# Altium integrated library moteus_n1.IntLib: 35 symbols
Pins are listed as number, name and electrical type; pins without a type are passive.

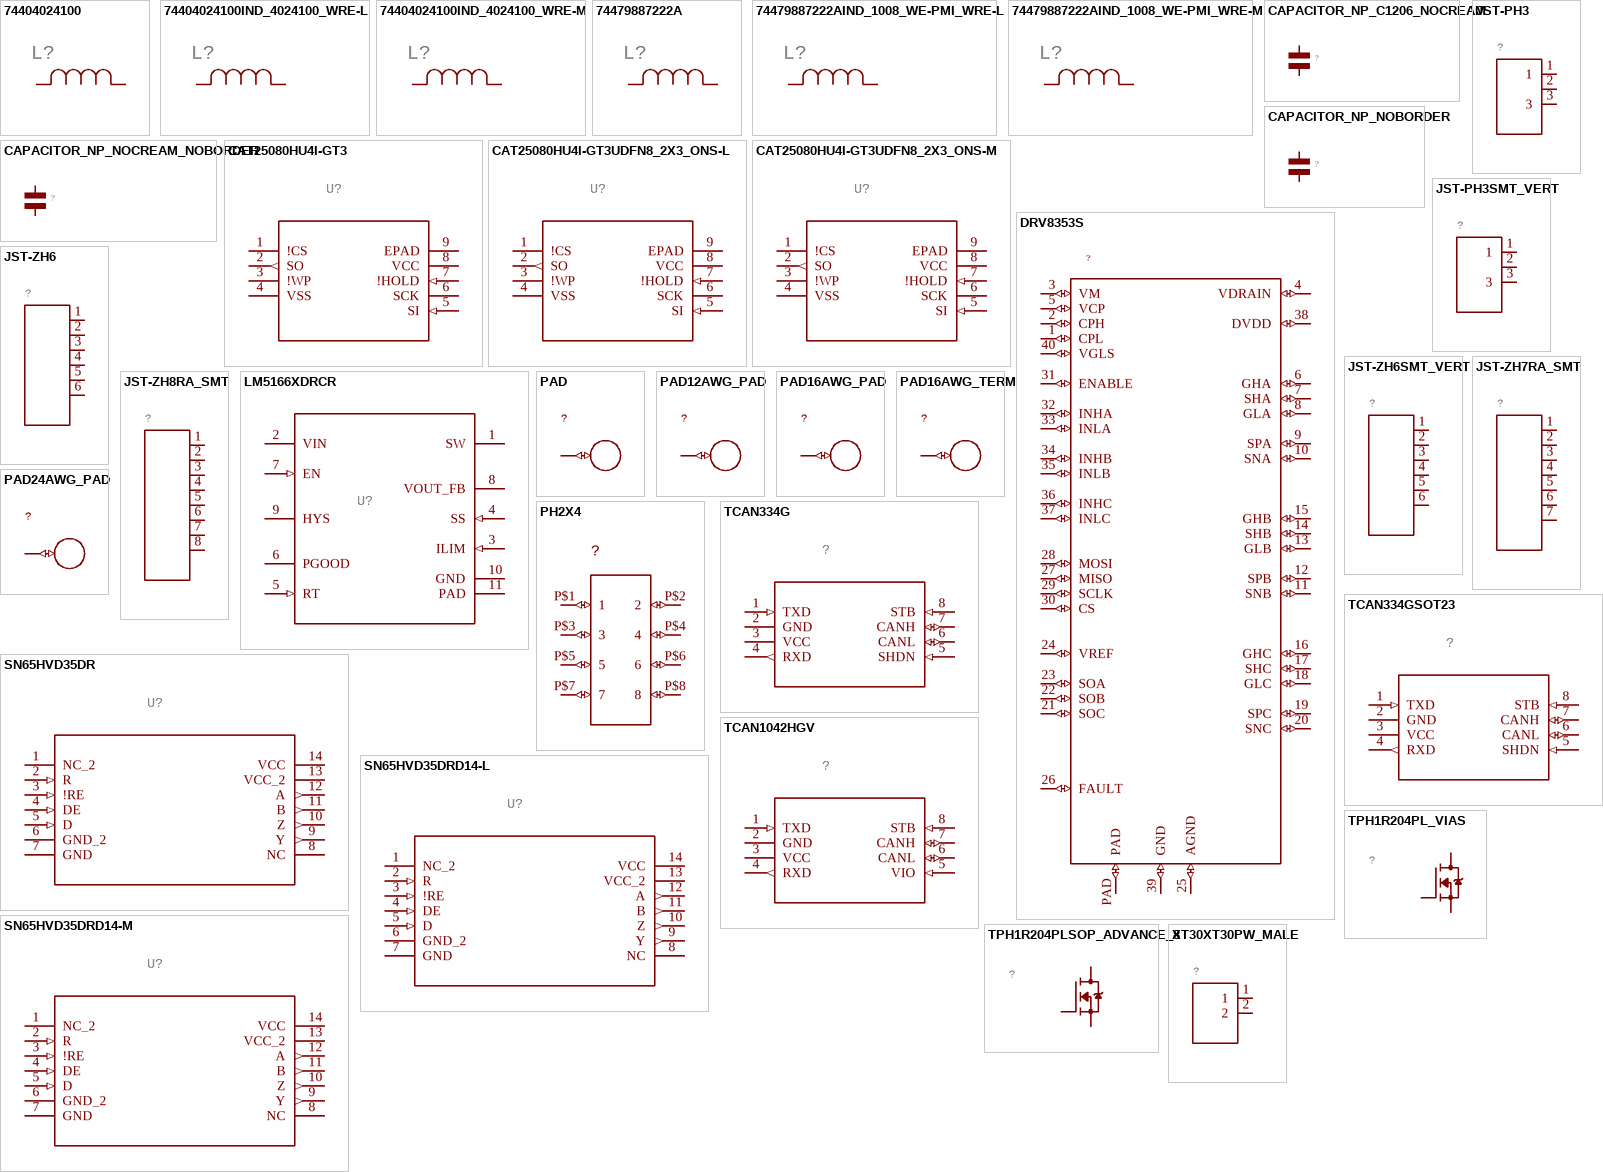
[diagram p0: symbols 74404024100 to XT30XT30PW_MALE]

## 74404024100
designator L?
MFR_NAME: Wurth Electronics; GateName_1: A; SymbolName_1: IND; DeviceSetName: 74404024100; LibraryName: moteus_n1; Package: IND_4024100_WRE; COPYRIGHT: Copyright (C) 2022 Ultra Librarian. All rights reserved.; DIGI-KEY_PART_NUMBER_1: 732-5428-2-ND; DIGI-KEY_PART_NUMBER_2: 732-5428-1-ND; DIGI-KEY_PART_NUMBER_3: 732-5428-6-ND; MANUFACTURER_PART_NUMBER: 74404024100
footprint IND_4024100_WRE
pins: 1, 2

## 74404024100IND_4024100_WRE-L
designator L?
MFR_NAME: Wurth Electronics; GateName_1: A; SymbolName_1: IND; DeviceName: IND_4024100_WRE-L; DeviceSetName: 74404024100; LibraryName: moteus_n1; Package: IND_4024100_WRE-L; COPYRIGHT: Copyright (C) 2022 Ultra Librarian. All rights reserved.; DIGI-KEY_PART_NUMBER_1: 732-5428-2-ND; DIGI-KEY_PART_NUMBER_2: 732-5428-1-ND; DIGI-KEY_PART_NUMBER_3: 732-5428-6-ND; MANUFACTURER_PART_NUMBER: 74404024100
footprint IND_4024100_WRE-L
pins: 1, 2

## 74404024100IND_4024100_WRE-M
designator L?
MFR_NAME: Wurth Electronics; GateName_1: A; SymbolName_1: IND; DeviceName: IND_4024100_WRE-M; DeviceSetName: 74404024100; LibraryName: moteus_n1; Package: IND_4024100_WRE-M; COPYRIGHT: Copyright (C) 2022 Ultra Librarian. All rights reserved.; DIGI-KEY_PART_NUMBER_1: 732-5428-2-ND; DIGI-KEY_PART_NUMBER_2: 732-5428-1-ND; DIGI-KEY_PART_NUMBER_3: 732-5428-6-ND; MANUFACTURER_PART_NUMBER: 74404024100
footprint IND_4024100_WRE-M
pins: 1, 2

## 74479887222A
designator L?
MFR_NAME: Wurth Electronics; GateName_1: A; SymbolName_1: IND; DeviceSetName: 74479887222A; LibraryName: moteus_n1; Package: IND_1008_WE-PMI_WRE; COPYRIGHT: Copyright (C) 2023 Ultra Librarian. All rights reserved.; DIGI-KEY_PART_NUMBER_1: 732-4513-2-ND; DIGI-KEY_PART_NUMBER_2: 732-4513-1-ND; DIGI-KEY_PART_NUMBER_3: 732-4513-6-ND; MANUFACTURER_PART_NUMBER: 74479887222A
footprint IND_1008_WE-PMI_WRE
pins: 1, 2

## 74479887222AIND_1008_WE-PMI_WRE-L
designator L?
MFR_NAME: Wurth Electronics; GateName_1: A; SymbolName_1: IND; DeviceName: IND_1008_WE-PMI_WRE-L; DeviceSetName: 74479887222A; LibraryName: moteus_n1; Package: IND_1008_WE-PMI_WRE-L; COPYRIGHT: Copyright (C) 2023 Ultra Librarian. All rights reserved.; DIGI-KEY_PART_NUMBER_1: 732-4513-2-ND; DIGI-KEY_PART_NUMBER_2: 732-4513-1-ND; DIGI-KEY_PART_NUMBER_3: 732-4513-6-ND; MANUFACTURER_PART_NUMBER: 74479887222A
footprint IND_1008_WE-PMI_WRE-L
pins: 1, 2

## 74479887222AIND_1008_WE-PMI_WRE-M
designator L?
MFR_NAME: Wurth Electronics; GateName_1: A; SymbolName_1: IND; DeviceName: IND_1008_WE-PMI_WRE-M; DeviceSetName: 74479887222A; LibraryName: moteus_n1; Package: IND_1008_WE-PMI_WRE-M; COPYRIGHT: Copyright (C) 2023 Ultra Librarian. All rights reserved.; DIGI-KEY_PART_NUMBER_1: 732-4513-2-ND; DIGI-KEY_PART_NUMBER_2: 732-4513-1-ND; DIGI-KEY_PART_NUMBER_3: 732-4513-6-ND; MANUFACTURER_PART_NUMBER: 74479887222A
footprint IND_1008_WE-PMI_WRE-M
pins: 1, 2

## CAPACITOR_NP_C1206_NOCREAM
designator ?
GateName_1: A; SymbolName_1: CAPACITOR_NP; DeviceName: _C1206_NOCREAM; LibraryName: moteus_n1; DeviceSetName: CAPACITOR_NP; Package: C1206_NOCREAM
footprint C1206_NOCREAM
pins: P$1, P$2

## CAPACITOR_NP_NOBORDER
designator ?
GateName_1: A; SymbolName_1: CAPACITOR_NP; DeviceName: _NOBORDER; LibraryName: moteus_n1; DeviceSetName: CAPACITOR_NP; Package: C1206_NOBORDER
footprint C1206_NOBORDER
pins: P$1, P$2

## CAPACITOR_NP_NOCREAM_NOBORDER
designator ?
GateName_1: A; SymbolName_1: CAPACITOR_NP; DeviceName: _NOCREAM_NOBORDER; LibraryName: moteus_n1; DeviceSetName: CAPACITOR_NP; Package: C1206_NOCREAM_NOBORDER
footprint C1206_NOCREAM_NOBORDER
pins: P$1, P$2

## CAT25080HU4I-GT3
designator U?
MFR_NAME: onsemi; GateName_1: A; SymbolName_1: CAT25080HU4I-GT3; LibraryName: moteus_n1; DeviceSetName: CAT25080HU4I-GT3; Package: UDFN8_2X3_ONS; COPYRIGHT: Copyright (C) 2022 Ultra Librarian. All rights reserved.; DIGI-KEY_PART_NUMBER_1: 2156-CAT25080HU4I-GT3-OS-ND; DIGI-KEY_PART_NUMBER_2: CAT25080HU4I-GT3-ND; DIGI-KEY_PART_NUMBER_3: CAT25080HU4I-GT3OSCT-ND; DIGI-KEY_PART_NUMBER_4: CAT25080HU4I-GT3OSDKR-ND; DIGI-KEY_PART_NUMBER_5: CAT25080HU4I-GT3OSTR-ND; MANUFACTURER_PART_NUMBER: CAT25080HU4I-GT3
footprint UDFN8_2X3_ONS
pins: 1 !CS, 2 SO (out), 3 !WP, 4 VSS (power), 5 SI (in), 6 SCK, 7 !HOLD (in), 8 VCC (power), 9 EPAD

## CAT25080HU4I-GT3UDFN8_2X3_ONS-L
designator U?
MFR_NAME: onsemi; GateName_1: A; SymbolName_1: CAT25080HU4I-GT3; DeviceName: UDFN8_2X3_ONS-L; LibraryName: moteus_n1; DeviceSetName: CAT25080HU4I-GT3; Package: UDFN8_2X3_ONS-L; COPYRIGHT: Copyright (C) 2022 Ultra Librarian. All rights reserved.; DIGI-KEY_PART_NUMBER_1: 2156-CAT25080HU4I-GT3-OS-ND; DIGI-KEY_PART_NUMBER_2: CAT25080HU4I-GT3-ND; DIGI-KEY_PART_NUMBER_3: CAT25080HU4I-GT3OSCT-ND; DIGI-KEY_PART_NUMBER_4: CAT25080HU4I-GT3OSDKR-ND; DIGI-KEY_PART_NUMBER_5: CAT25080HU4I-GT3OSTR-ND; MANUFACTURER_PART_NUMBER: CAT25080HU4I-GT3
footprint UDFN8_2X3_ONS-L
pins: 1 !CS, 2 SO (out), 3 !WP, 4 VSS (power), 5 SI (in), 6 SCK, 7 !HOLD (in), 8 VCC (power), 9 EPAD

## CAT25080HU4I-GT3UDFN8_2X3_ONS-M
designator U?
MFR_NAME: onsemi; GateName_1: A; SymbolName_1: CAT25080HU4I-GT3; DeviceName: UDFN8_2X3_ONS-M; LibraryName: moteus_n1; DeviceSetName: CAT25080HU4I-GT3; Package: UDFN8_2X3_ONS-M; COPYRIGHT: Copyright (C) 2022 Ultra Librarian. All rights reserved.; DIGI-KEY_PART_NUMBER_1: 2156-CAT25080HU4I-GT3-OS-ND; DIGI-KEY_PART_NUMBER_2: CAT25080HU4I-GT3-ND; DIGI-KEY_PART_NUMBER_3: CAT25080HU4I-GT3OSCT-ND; DIGI-KEY_PART_NUMBER_4: CAT25080HU4I-GT3OSDKR-ND; DIGI-KEY_PART_NUMBER_5: CAT25080HU4I-GT3OSTR-ND; MANUFACTURER_PART_NUMBER: CAT25080HU4I-GT3
footprint UDFN8_2X3_ONS-M
pins: 1 !CS, 2 SO (out), 3 !WP, 4 VSS (power), 5 SI (in), 6 SCK, 7 !HOLD (in), 8 VCC (power), 9 EPAD

## DRV8353S
designator ?
GateName_1: G$1; SymbolName_1: DRV8353S; LibraryName: moteus_n1; DeviceSetName: DRV8353S; Package: WQFN-40
footprint WQFN-40
pins: 1 CPL (io), 2 CPH (io), 3 VM (io), 4 VDRAIN (io), 5 VCP (io), 6 GHA (io), 7 SHA (io), 8 GLA (io), 9 SPA (io), 10 SNA (io), 11 SNB (io), 12 SPB (io), 13 GLB (io), 14 SHB (io), 15 GHB (io), 16 GHC (io), 17 SHC (io), 18 GLC (io), 19 SPC (io), 20 SNC (io), 21 SOC (io), 22 SOB (io), 23 SOA (io), 24 VREF (io), 25 AGND (io), 26 FAULT (io), 27 MISO (io), 28 MOSI (io), 29 SCLK (io), 30 CS (io), 31 ENABLE (io), 32 INHA (io), 33 INLA (io), 34 INHB (io), 35 INLB (io), 36 INHC (io), 37 INLC (io), 38 DVDD (io), 39 GND (io), 40 VGLS (io), PAD (io)

## JST-PH3
designator ?
GateName_1: A; SymbolName_1: CON03; DeviceSetName: JST-PH3; LibraryName: moteus_n1; Package: JST_S3B-PH-SM4-TB(LF)(SN)
footprint JST_S3B-PH-SM4-TB(LF)(SN)
pins: 1, 2, 3

## JST-PH3SMT_VERT
designator ?
GateName_1: A; SymbolName_1: CON03; DeviceName: SMT_VERT; DeviceSetName: JST-PH3; LibraryName: moteus_n1; Package: JST_B3B_PH-SM4-TB(LF)(SN)
footprint JST_B3B_PH-SM4-TB(LF)(SN)
pins: 1, 2, 3

## JST-ZH6
designator ?
GateName_1: A; SymbolName_1: CON06; DeviceSetName: JST-ZH6; LibraryName: moteus_n1; Package: JST_S6B-ZR-SM4A-TF(LF)(SN)
footprint JST_S6B-ZR-SM4A-TF(LF)(SN)
pins: 1, 2, 3, 4, 5, 6

## JST-ZH6SMT_VERT
designator ?
GateName_1: A; SymbolName_1: CON06; DeviceName: SMT_VERT; DeviceSetName: JST-ZH6; LibraryName: moteus_n1; Package: JST_B6B-ZR-SM4-TF(LF)(SN)
footprint JST_B6B-ZR-SM4-TF(LF)(SN)
pins: 1, 2, 3, 4, 5, 6

## JST-ZH7RA_SMT
designator ?
GateName_1: G$1; SymbolName_1: CON07; DeviceName: RA_SMT; DeviceSetName: JST-ZH7; LibraryName: moteus_n1; Package: JST_S7B-ZR-SM4A-TF(LF)(SN)
footprint JST_S7B-ZR-SM4A-TF(LF)(SN)
pins: 1, 2, 3, 4, 5, 6, 7

## JST-ZH8RA_SMT
designator ?
GateName_1: G$1; SymbolName_1: CON08; DeviceName: RA_SMT; DeviceSetName: JST-ZH8; LibraryName: moteus_n1; Package: JST_S8B-ZR-SM4A-TF(LF)(SN)
footprint JST_S8B-ZR-SM4A-TF(LF)(SN)
pins: 1, 2, 3, 4, 5, 6, 7, 8

## LM5166XDRCR
designator U?
MFR_NAME: Texas Instruments; GateName_1: A; SymbolName_1: LM5166DRC; DeviceSetName: LM5166XDRCR; LibraryName: moteus_n1; Package: DRC0010J; COPYRIGHT: Copyright (C) 2022 Ultra Librarian. All rights reserved.; DIGI-KEY_PART_NUMBER_1: 296-47662-1-ND; DIGI-KEY_PART_NUMBER_2: 296-47662-2-ND; DIGI-KEY_PART_NUMBER_3: 296-47662-6-ND; MANUFACTURER_PART_NUMBER: LM5166XDRCR; REFDES: RefDes; TYPE: TYPE
footprint DRC0010J
pins: 1 SW (power), 2 VIN (power), 3 ILIM (in), 4 SS (in), 5 RT (in), 6 PGOOD (oc), 7 EN (in), 8 VOUT_FB, 9 HYS, 10 GND (power), 11 PAD (power)

## PAD
designator ?
GateName_1: G$1; SymbolName_1: PAD; LibraryName: moteus_n1; DeviceSetName: PAD; Package: 18AWG_PAD
footprint 18AWG_PAD
pins: 1 P$1 (io)

## PAD12AWG_PAD
designator ?
GateName_1: G$1; SymbolName_1: PAD; DeviceName: 12AWG_PAD; LibraryName: moteus_n1; DeviceSetName: PAD; Package: 12AWG_PAD
footprint 12AWG_PAD
pins: 1 P$1 (io)

## PAD16AWG_PAD
designator ?
GateName_1: G$1; SymbolName_1: PAD; DeviceName: 16AWG_PAD; LibraryName: moteus_n1; DeviceSetName: PAD; Package: 16AWG_PAD
footprint 16AWG_PAD
pins: 1 P$1 (io)

## PAD16AWG_TERM
designator ?
GateName_1: G$1; SymbolName_1: PAD; DeviceName: 16AWG_TERM; LibraryName: moteus_n1; DeviceSetName: PAD; Package: 16AWG_TERM
footprint 16AWG_TERM
pins: 1-13 P$1 (io)

## PAD24AWG_PAD
designator ?
GateName_1: G$1; SymbolName_1: PAD; DeviceName: 24AWG_PAD; LibraryName: moteus_n1; DeviceSetName: PAD; Package: 24AWG_PAD
footprint 24AWG_PAD
pins: P$1 (io)

## PH2X4
designator ?
GateName_1: G$1; SymbolName_1: PH2X4; LibraryName: moteus_n1; DeviceSetName: PH2X4; Package: PH2X4
footprint PH2X4
pins: P$1 1 (io), P$2 2 (io), P$3 3 (io), P$4 4 (io), P$5 5 (io), P$6 6 (io), P$7 7 (io), P$8 8 (io)

## SN65HVD35DR
designator U?
MFR_NAME: Texas Instruments; GateName_1: A; SymbolName_1: SN65HVD35_D_14; DeviceSetName: SN65HVD35DR; LibraryName: moteus_n1; Package: D14; COPYRIGHT: Copyright (C) 2022 Ultra Librarian. All rights reserved.; DIGI-KEY_PART_NUMBER_1: 296-18706-1-ND; DIGI-KEY_PART_NUMBER_2: 296-18706-2-ND; DIGI-KEY_PART_NUMBER_3: 296-18706-6-ND; MANUFACTURER_PART_NUMBER: SN65HVD35DR
footprint D14
pins: 1 NC_2, 2 R (in), 3 !RE (in), 4 DE (in), 5 D (in), 6 GND_2 (power), 7 GND (power), 8 NC, 9 Y (out), 10 Z (out), 11 B (out), 12 A (out), 13 VCC_2 (power), 14 VCC (power)

## SN65HVD35DRD14-L
designator U?
MFR_NAME: Texas Instruments; GateName_1: A; SymbolName_1: SN65HVD35_D_14; DeviceName: D14-L; DeviceSetName: SN65HVD35DR; LibraryName: moteus_n1; Package: D14-L; COPYRIGHT: Copyright (C) 2022 Ultra Librarian. All rights reserved.; DIGI-KEY_PART_NUMBER_1: 296-18706-1-ND; DIGI-KEY_PART_NUMBER_2: 296-18706-2-ND; DIGI-KEY_PART_NUMBER_3: 296-18706-6-ND; MANUFACTURER_PART_NUMBER: SN65HVD35DR
footprint D14-L
pins: 1 NC_2, 2 R (in), 3 !RE (in), 4 DE (in), 5 D (in), 6 GND_2 (power), 7 GND (power), 8 NC, 9 Y (out), 10 Z (out), 11 B (out), 12 A (out), 13 VCC_2 (power), 14 VCC (power)

## SN65HVD35DRD14-M
designator U?
MFR_NAME: Texas Instruments; GateName_1: A; SymbolName_1: SN65HVD35_D_14; DeviceName: D14-M; DeviceSetName: SN65HVD35DR; LibraryName: moteus_n1; Package: D14-M; COPYRIGHT: Copyright (C) 2022 Ultra Librarian. All rights reserved.; DIGI-KEY_PART_NUMBER_1: 296-18706-1-ND; DIGI-KEY_PART_NUMBER_2: 296-18706-2-ND; DIGI-KEY_PART_NUMBER_3: 296-18706-6-ND; MANUFACTURER_PART_NUMBER: SN65HVD35DR
footprint D14-M
pins: 1 NC_2, 2 R (in), 3 !RE (in), 4 DE (in), 5 D (in), 6 GND_2 (power), 7 GND (power), 8 NC, 9 Y (out), 10 Z (out), 11 B (out), 12 A (out), 13 VCC_2 (power), 14 VCC (power)

## TCAN334G
designator ?
GateName_1: G$1; SymbolName_1: TCAN334GDCNT; DeviceSetName: TCAN334G; LibraryName: moteus_n1; Package: SOIC8
footprint SOIC8
pins: 1 TXD (in), 2 GND (power), 3 VCC (power), 4 RXD (out), 5 SHDN (in), 6 CANL (io), 7 CANH (io), 8 STB (in)

## TCAN334GSOT23
designator ?
GateName_1: G$1; SymbolName_1: TCAN334GDCNT; DeviceName: SOT23; DeviceSetName: TCAN334G; LibraryName: moteus_n1; Package: SOT23-8
footprint SOT23-8
pins: 1 TXD (in), 2 GND (power), 3 VCC (power), 4 RXD (out), 5 SHDN (in), 6 CANL (io), 7 CANH (io), 8 STB (in)

## TCAN1042HGV
designator ?
GateName_1: G$1; SymbolName_1: TCAN1042HGV; LibraryName: moteus_n1; DeviceSetName: TCAN1042HGV; Package: SOIC8
footprint SOIC8
pins: 1 TXD (in), 2 GND (power), 3 VCC (power), 4 RXD (out), 5 VIO (in), 6 CANL (io), 7 CANH (io), 8 STB (in)

## TPH1R204PL_VIAS
designator ?
GateName_1: G$1; SymbolName_1: N-MOSFET; DeviceName: _VIAS; DeviceSetName: TPH1R204PL; LibraryName: moteus_n1; Package: SOP_ADVANCE_8_VIAS
footprint SOP_ADVANCE_8_VIAS
pins: 1-3 S, 4 G, 5,6,7,8,PAD D

## TPH1R204PLSOP_ADVANCE_8
designator ?
GateName_1: G$1; SymbolName_1: N-MOSFET; DeviceName: SOP_ADVANCE_8; DeviceSetName: TPH1R204PL; MF: Toshiba; LibraryName: moteus_n1; Package: SOP_ADVANCE_8; MPN: TPH1R204PL
footprint SOP_ADVANCE_8
pins: 1-3 S, 4 G, 5,6,7,8,PAD D

## XT30XT30PW_MALE
designator ?
GateName_1: G$1; SymbolName_1: CON02; DeviceName: XT30PW_MALE; DeviceSetName: XT30; LibraryName: moteus_n1; Package: XT30PW_MALE
footprint XT30PW_MALE
pins: 1, 2